# Altium schematic symbol library esp32.SchLib: 4 symbols
Pins are listed as number, name and electrical type; pins without a type are passive.

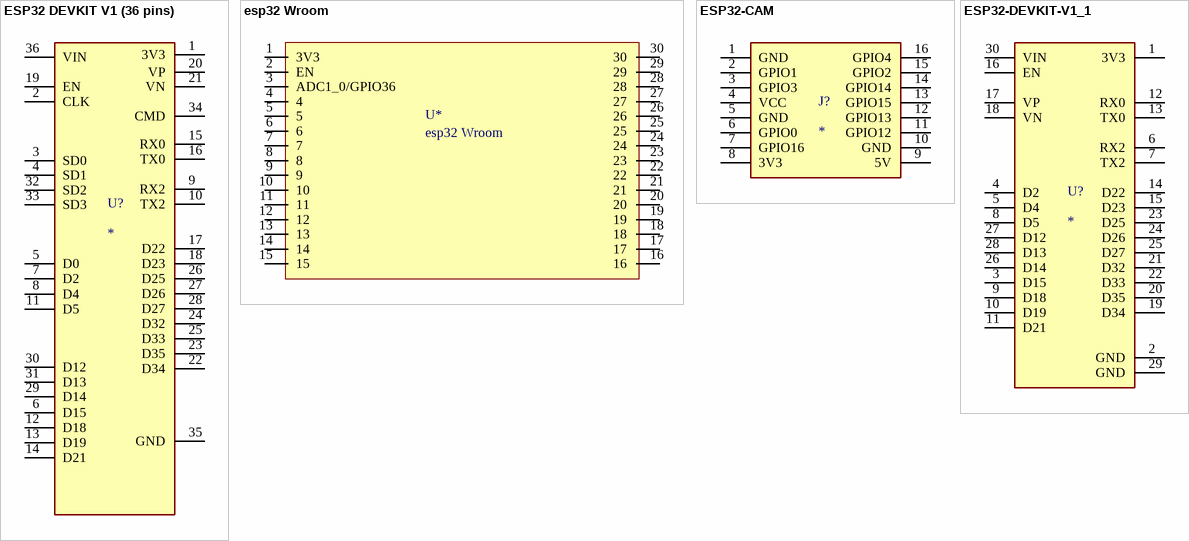
[diagram p0: symbols ESP32 DEVKIT V1 (36 pins) to ESP32-DEVKIT-V1_1]

## ESP32 DEVKIT V1 (36 pins)
designator U?
Dual core, Wi-Fi: 2.4 GHz up to 150 Mbits/s,BLE (Bluetooth Low Energy) and legacy Bluetooth, 32 bits, Up to 240 MHz; MF: Do it; MP: ESP32-DEVKIT-V1; SnapEDA_Link: https://www.snapeda.com/parts/ESP32-DEVKIT-V1/Do+it/view-part/?ref=snap; Package: None; Value: *; Check_prices: https://www.snapeda.com/parts/ESP32-DEVKIT-V1/Do+it/view-part/?ref=eda
footprint ESP32 DEVKIT V1 (36 pins)
pins: 1 3V3, 2 CLK, 3 SD0, 4 SD1, 5 D0, 6 D15, 7 D2, 8 D4, 9 RX2, 10 TX2, 11 D5, 12 D18, 13 D19, 14 D21, 15 RX0, 16 TX0, 17 D22, 18 D23, 19 EN, 20 VP, 21 VN, 22 D34, 23 D35, 24 D32, 25 D33, 26 D25, 27 D26, 28 D27, 29 D14, 30 D12, 31 D13, 32 SD2, 33 SD3, 34 CMD, 35 GND, 36 VIN

## esp32 Wroom
designator U*
pins: 1 3V3, 2 EN, 3 ADC1_0/GPIO36, 4, 5, 6, 7, 8, 9, 10, 11, 12, 13, 14, 15, 16, 17, 18, 19, 20, 21, 22, 23, 24, 25, 26, 27, 28, 29, 30

## ESP32-CAM
designator J?
ESP32 ESP32 Transceiver; 802.11 a/b/g/n (Wi-Fi, WiFi, WLAN), BluetoothÂ® Smart 4.x Low Energy (BLE) Evaluation Board; MF: AI-Thinker; MP: ESP32-CAM; SnapEDA_Link: https://www.snapeda.com/parts/ESP32-CAM/AI-Thinker/view-part/?ref=snap; Package: None; Value: *; Check_prices: https://www.snapeda.com/parts/ESP32-CAM/AI-Thinker/view-part/?ref=eda
footprint ESP32-CAM
pins: 1 GND, 2 GPIO1, 3 GPIO3, 4 VCC, 5 GND, 6 GPIO0, 7 GPIO16, 8 3V3, 9 5V, 10 GND, 11 GPIO12, 12 GPIO13, 13 GPIO15, 14 GPIO14, 15 GPIO2, 16 GPIO4

## ESP32-DEVKIT-V1_1
designator U?
Dual core, Wi-Fi: 2.4 GHz up to 150 Mbits/s,BLE (Bluetooth Low Energy) and legacy Bluetooth, 32 bits, Up to 240 MHz; MF: Do it; MP: ESP32-DEVKIT-V1; SnapEDA_Link: https://www.snapeda.com/parts/ESP32-DEVKIT-V1/Do+it/view-part/?ref=snap; Package: None; Value: *; Check_prices: https://www.snapeda.com/parts/ESP32-DEVKIT-V1/Do+it/view-part/?ref=eda
footprint MODULE_ESP32_DEVKIT_V1
pins: 1 3V3, 2 GND, 3 D15, 4 D2, 5 D4, 6 RX2, 7 TX2, 8 D5, 9 D18, 10 D19, 11 D21, 12 RX0, 13 TX0, 14 D22, 15 D23, 16 EN, 17 VP, 18 VN, 19 D34, 20 D35, 21 D32, 22 D33, 23 D25, 24 D26, 25 D27, 26 D14, 27 D12, 28 D13, 29 GND, 30 VIN